# Altium schematic symbol library PJ002A.SchLib: 1 symbol
Pins are listed as number, name and electrical type; pins without a type are passive.

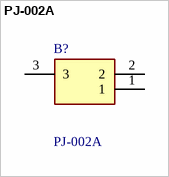
[diagram p0: symbol PJ-002A]

## PJ-002A
designator B?
CONN PWR JACK 2X5.5MM SOLDER; Manufacturer_Name: CUI Devices; Geometry.Height: 11mm; Mouser Part Number: 490-PJ-002A; Mouser Price/Stock: https://www.mouser.co.uk/ProductDetail/CUI-Devices/PJ-002A?qs=WyjlAZoYn51CKfAix9Mngw%3D%3D; Manufacturer_Part_Number: PJ-002A; Datasheet Link: https://www.cui.com/product/resource/digikeypdf/pj-002a.pdf
footprint PJ002A
pins: 1, 2, 3